# Altium footprint library x-TAIY_NRS5030.PcbLib: 1 footprints
Each footprint in its own frame and in the unit in brackets; x right, y up, seen from the top. Pads: shape width x height; smd on the part's side, far side on the other; paste and mask are expansions set on the pad; w line width, h text height; cw(c..) or ccw(c..) is an arc to the next point about the centre after c.
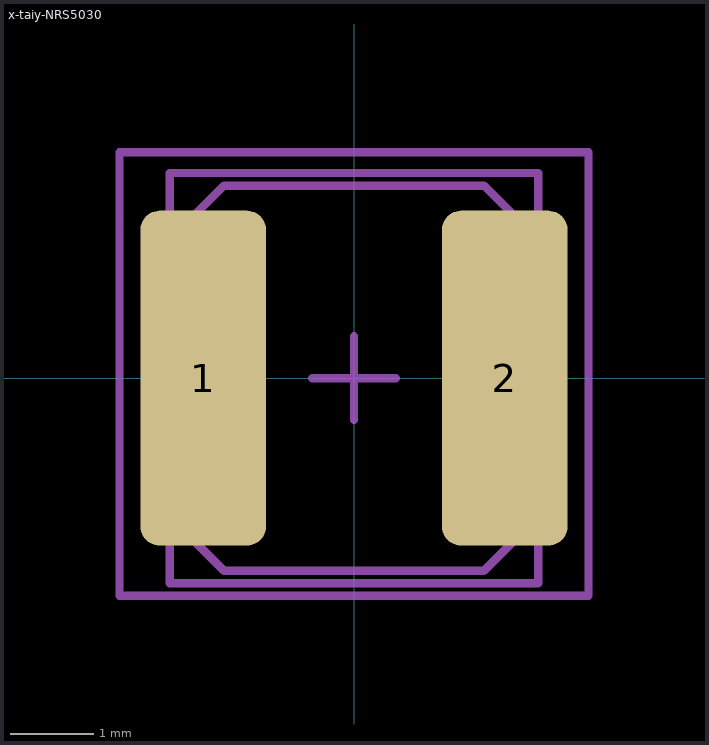
[diagram p0: the footprint, top view; thin cyan lines are the x and y axes]

## x-taiy-NRS5030 [mm] "Shielded Inductor"
height 3
pads (2):
  rrect30% 1.5x4 smd: 1(-1.8,0) 2(1.8,0)
Mechanical 13:
  lines w0.1: -2.45,-1.4 -1.55,-2.3 0,-2.3 1.55,-2.3 2.45,-1.4 2.45,1.4 1.55,2.3 0,2.3 -1.55,2.3 -2.45,1.4 -2.45,-1.4 ; -2.2,-2.45 -2.2,2.45 2.2,2.45 2.2,-2.45 -2.2,-2.45
Mechanical 15:
  lines w0.1: -0.5,0 0.5,0 ; 0,-0.5 0,0.5 ; -2.8,-2.6 -2.8,2.7 2.8,2.7 2.8,-2.6 -2.8,-2.6
3D body: height 1.5, standoff 0, extent -2.2,-2.45 2.2,2.45
3D body: height 3, standoff 1.5, extent -2.45,-2.3 2.45,2.3